# Altium integrated library sullins.IntLib: 1 symbol
Pins are listed as number, name and electrical type; pins without a type are passive.

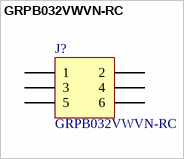
[diagram p0: symbol GRPB032VWVN-RC]

## GRPB032VWVN-RC
designator J?
2x3 Header, 0.05" spacing; LatestRevisionDate: 17-Jul-2002; LatestRevisionNote: Re-released for DXP Platform.; Publisher: Altium Limited
footprint GRPB032VWVN-RC (Connector; Header; 3x2 Position)
pins: 1, 2, 3, 4, 5, 6